# EAGLE library part ICM-SMT_10MHZ (library trimble)
ICM-SMT GPS Timing Receiver Module 10MHz SMD GPS Timing Receiver module, made by Trimble Navigation Ltd, Timing Group <http://www.trimble.com/timing/> Partnumber: 77766-00 Datasheet, User Manual and Tools <http://www.trimble.com/timing/ICM_SMT_GPS_Disciplined_Clock.aspx> Created by Trimble Navigation Ltd, Author: Christian Voit <mailto:christian_voit@trimble.com?subject=Trimble Eagle Library>
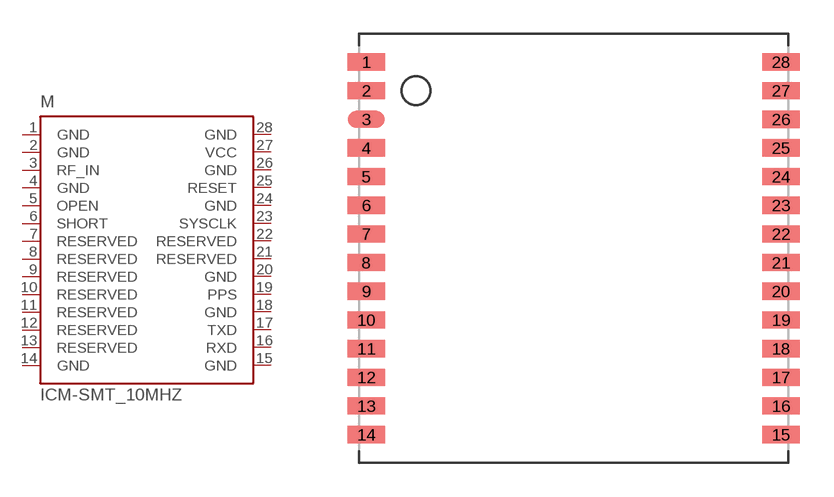
[diagram p10: symbol with the pads of 1919; footprint 1919]

Designator prefix M

## ICM-SMT_10MHZ-SMD  [1919]
1  GND  pwr
2  GND  pwr
3  RF_IN  in
4  GND  pwr
5  OPEN  in
6  SHORT  in
7  RESERVED  nc
8  RESERVED  nc
9  RESERVED  nc
10  RESERVED  nc
11  RESERVED  nc
12  RESERVED  nc
13  RESERVED  nc
14  GND  pwr
15  GND  pwr
16  RXD  in
17  TXD  out
18  GND  pwr
19  PPS  out
20  GND  pwr
21  RESERVED  nc
22  RESERVED  nc
23  SYSCLK  nc
24  GND  pwr
25  RESET  in
26  GND  pwr
27  VCC  pwr
28  GND  pwr

## Footprint 1919 (pad centres in mm)
Package 1919, 28-pads Size: 19 mm x 19 mm x 2.54 mm 28 SMD edge-castellation pads, 1.27 mm pad-pitch by Trimble Navigation Ltd, Embedded Systems Group <http://www.trimble.com/embeddedsystems/> Used for: Condor C1919A, C1919B, C1919C, Copernicus, Copernicus-II, Resolution-SMT, ICM-SMT, Aardvark, Buffalo B1919 Created by Trimble Navigation Ltd, Author: Christian Voit <mailto:christian_voit@trimble.com?subject=Trimble Eagle Library>
smd 1.651 x 0.762: 1 -9.182,8.255; 2 -9.182,6.985; 3 -9.182,5.715; 4 -9.182,4.445; 5 -9.182,3.175; 6 -9.182,1.905; 7 -9.182,0.635; 8 -9.182,-0.635; 9 -9.182,-1.905; 10 -9.182,-3.175; 11 -9.182,-4.445; 12 -9.182,-5.715; 13 -9.182,-6.985; 14 -9.182,-8.255; 15 9.182,-8.255; 16 9.182,-6.985; 17 9.182,-5.715; 18 9.182,-4.445; 19 9.182,-3.175; 20 9.182,-1.905; 21 9.182,-0.635; 22 9.182,0.635; 23 9.182,1.905; 24 9.182,3.175; 25 9.182,4.445; 26 9.182,5.715; 27 9.182,6.985; 28 9.182,8.255